# EAGLE library part SMLP36RGB2W(R) (library KwanSystems)
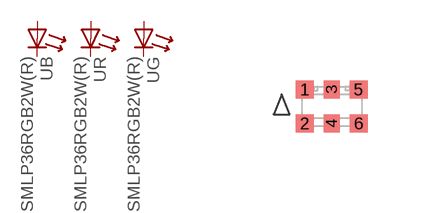
[diagram p30: symbol with the pads of SMLP36; footprint SMLP36]

Designator prefix -; gates B=LED R=LED G=LED

## SMLP36RGB2W(R)  [SMLP36]
1  B:C  pas
2  B:A  pas
3  R:C  pas
4  R:A  pas
5  G:C  pas
6  G:A  pas

## Footprint SMLP36 (pad centres in mm)
smd 0.45 x 0.45: 1 -0.675,0.425; 2 -0.675,-0.425; 5 0.675,0.425; 6 0.675,-0.425
smd 0.4 x 0.45: 3 0,0.425; 4 0,-0.425